# Altium schematic symbol library SymbolsHW003.SchLib: 35 symbols
Pins are listed as number, name and electrical type; pins without a type are passive.

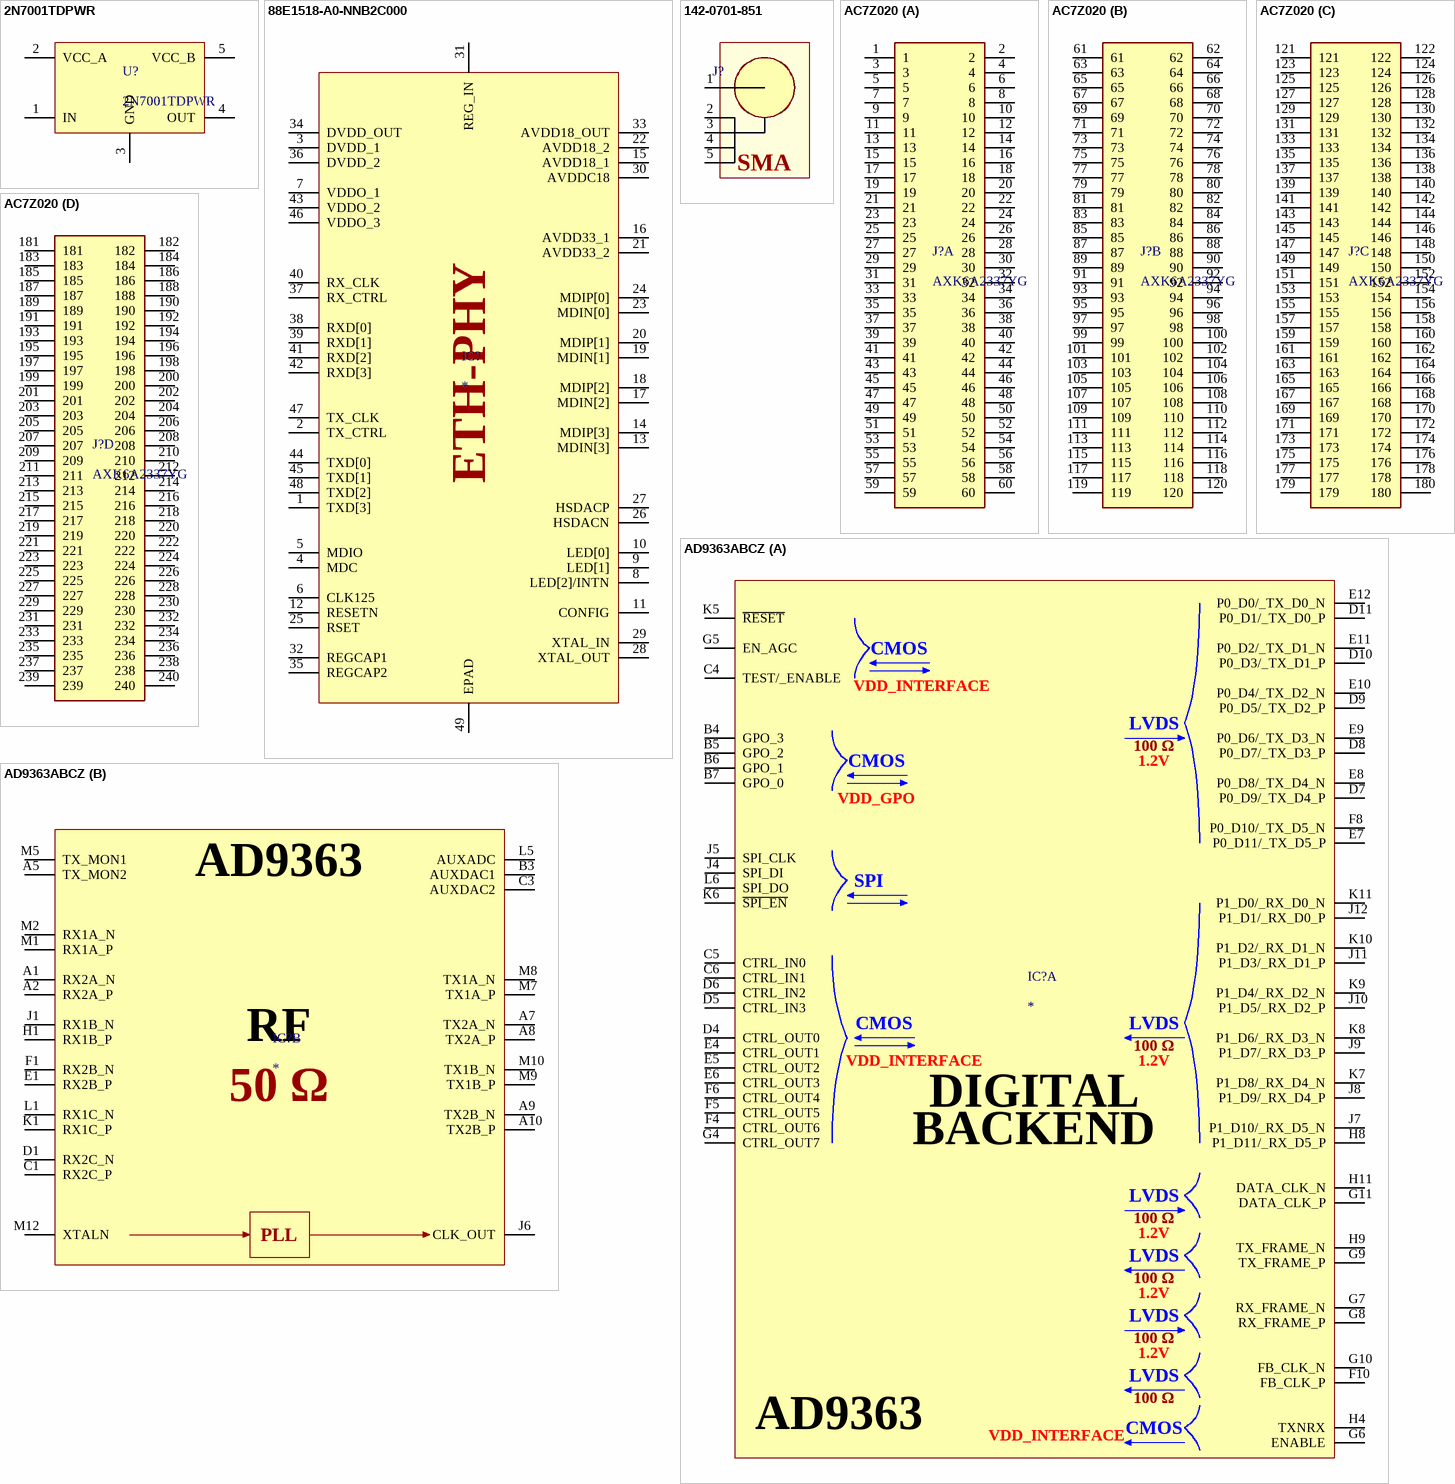
[diagram p0: symbols 2N7001TDPWR to AD9363ABCZ]

## 2N7001TDPWR
designator U?
1-Pin Level translator 1.8V-3.3V; ComponentLink1Description: Datasheet; ComponentLink1URL: https://www.ti.com/lit/ds/symlink/2n7001t.pdf?ts=1727623294637&ref_url=https%253A%252F%252Fwww.mouser.com%252F; ComponentLink2Description: Mouser; ComponentLink2URL: https://www.mouser.com/ProductDetail/Texas-Instruments/2N7001TDPWR?qs=gTYE2QTfZfQ3TTeNKMsV%2Fw%3D%3D
footprint TLV7011DPWR
pins: 1 IN, 2 VCC_A, 3 GND, 4 OUT, 5 VCC_B

## 88E1518-A0-NNB2C000
designator IC?
Ethernet PHY; Manufacturer_Name: Marvell; Manufacturer_Part_Number: 88E1518-A0-NNB2C000; Datasheet Link: https://www.marvell.com/documents/eoxwrbluvwybgxvagkkf/; Height: 1mm; Mouser Part Number: 348-88E1518A0NNB2C00; Mouser Price/Stock: https://www.mouser.co.uk/ProductDetail/Marvell/88E1518-A0-NNB2C000?qs=vdi0iO8H4N0rvEP0LNYMNQ%3D%3D; ComponentLink1Description: Datasheet; ComponentLink1URL: https://www.marvell.com/content/dam/marvell/en/public-collateral/phys-transceivers/marvell-phys-transceivers-alaska-88e151x-datasheet.pdf; ComponentLink2Description: Mouser; ComponentLink2URL: https://www.mouser.com/ProductDetail/Marvell/88E1518-A0-NNB2C000?qs=vdi0iO8H4N0rvEP0LNYMNQ%3D%3D&srsltid=AfmBOoqTLcXCK7KqjB--Ivno5nW_L9Xe-jGn5dG3R4JMU62fw1PFBWuH
footprint QFN50P700X700X100-49N
pins: 1 TXD[3], 2 TX_CTRL, 3 DVDD_1, 4 MDC, 5 MDIO, 6 CLK125, 7 VDDO_1, 8 LED[2]/INTN, 9 LED[1], 10 LED[0], 11 CONFIG, 12 RESETN, 13 MDIN[3], 14 MDIP[3], 15 AVDD18_1, 16 AVDD33_1, 17 MDIN[2], 18 MDIP[2], 19 MDIN[1], 20 MDIP[1], 21 AVDD33_2, 22 AVDD18_2, 23 MDIN[0], 24 MDIP[0], 25 RSET, 26 HSDACN, 27 HSDACP, 28 XTAL_OUT, 29 XTAL_IN, 30 AVDDC18, 31 REG_IN, 32 REGCAP1, 33 AVDD18_OUT, 34 DVDD_OUT, 35 REGCAP2, 36 DVDD_2, 37 RX_CTRL, 38 RXD[0], 39 RXD[1], 40 RX_CLK, 41 RXD[2], 42 RXD[3], 43 VDDO_2, 44 TXD[0], 45 TXD[1], 46 VDDO_3, 47 TX_CLK, 48 TXD[2], 49 EPAD
text: ETH-PHY

## 142-0701-851
designator J?
SMA - Edge Launch - Jack (Socket); MPN: 142-0701-851; ComponentLink1Description: Mouser; ComponentLink1URL: https://ar.mouser.com/ProductDetail/Johnson-Cinch-Connectivity-Solutions/142-0701-851?qs=iKljIZI%252Bxs62lAzRMYOufA%3D%3D; ComponentLink2Description: Datasheet; ComponentLink2URL: https://ar.mouser.com/datasheet/2/643/pi-CCS-JOHN-142-0701-851-1290383.pdf
footprint 142-0701-851 (SMA - Edge Launch - Jack (Socket))
pins: 1, 2, 3, 4, 5
text: SMA

## AC7Z020
designator J?, comment AXK6A2337YG
ZYNQ-7000, SOM, FPGA; ComponentLink1Description: Datasheet; ComponentLink1URL: https://www.alinx.com/public/upload/file/AC7Z020_User_Manual.pdf; ComponentLink2Description: Mouser; ComponentLink2URL: https://www.mouser.com/ProductDetail/Panasonic-Industrial-Devices/AXK6A2337YG?qs=2rFUEsTwVNyAZX1FnCtlOA%3D%3D
footprint AC7Z020
part A pins: 1, 2, 3, 4, 5, 6, 7, 8, 9, 10, 11, 12, 13, 14, 15, 16, 17, 18, 19, 20, 21, 22, 23, 24, 25, 26, 27, 28, 29, 30, 31, 32, 33, 34, 35, 36, 37, 38, 39, 40, 41, 42, 43, 44, 45, 46, 47, 48, 49, 50, 51, 52, 53, 54, 55, 56, 57, 58, 59, 60
part B pins: 61, 62, 63, 64, 65, 66, 67, 68, 69, 70, 71, 72, 73, 74, 75, 76, 77, 78, 79, 80, 81, 82, 83, 84, 85, 86, 87, 88, 89, 90, 91, 92, 93, 94, 95, 96, 97, 98, 99, 100, 101, 102, 103, 104, 105, 106, 107, 108, 109, 110, 111, 112, 113, 114, 115, 116, 117, 118, 119, 120
part C pins: 121, 122, 123, 124, 125, 126, 127, 128, 129, 130, 131, 132, 133, 134, 135, 136, 137, 138, 139, 140, 141, 142, 143, 144, 145, 146, 147, 148, 149, 150, 151, 152, 153, 154, 155, 156, 157, 158, 159, 160, 161, 162, 163, 164, 165, 166, 167, 168, 169, 170, 171, 172, 173, 174, 175, 176, 177, 178, 179, 180
part D pins: 181, 182, 183, 184, 185, 186, 187, 188, 189, 190, 191, 192, 193, 194, 195, 196, 197, 198, 199, 200, 201, 202, 203, 204, 205, 206, 207, 208, 209, 210, 211, 212, 213, 214, 215, 216, 217, 218, 219, 220, 221, 222, 223, 224, 225, 226, 227, 228, 229, 230, 231, 232, 233, 234, 235, 236, 237, 238, 239, 240

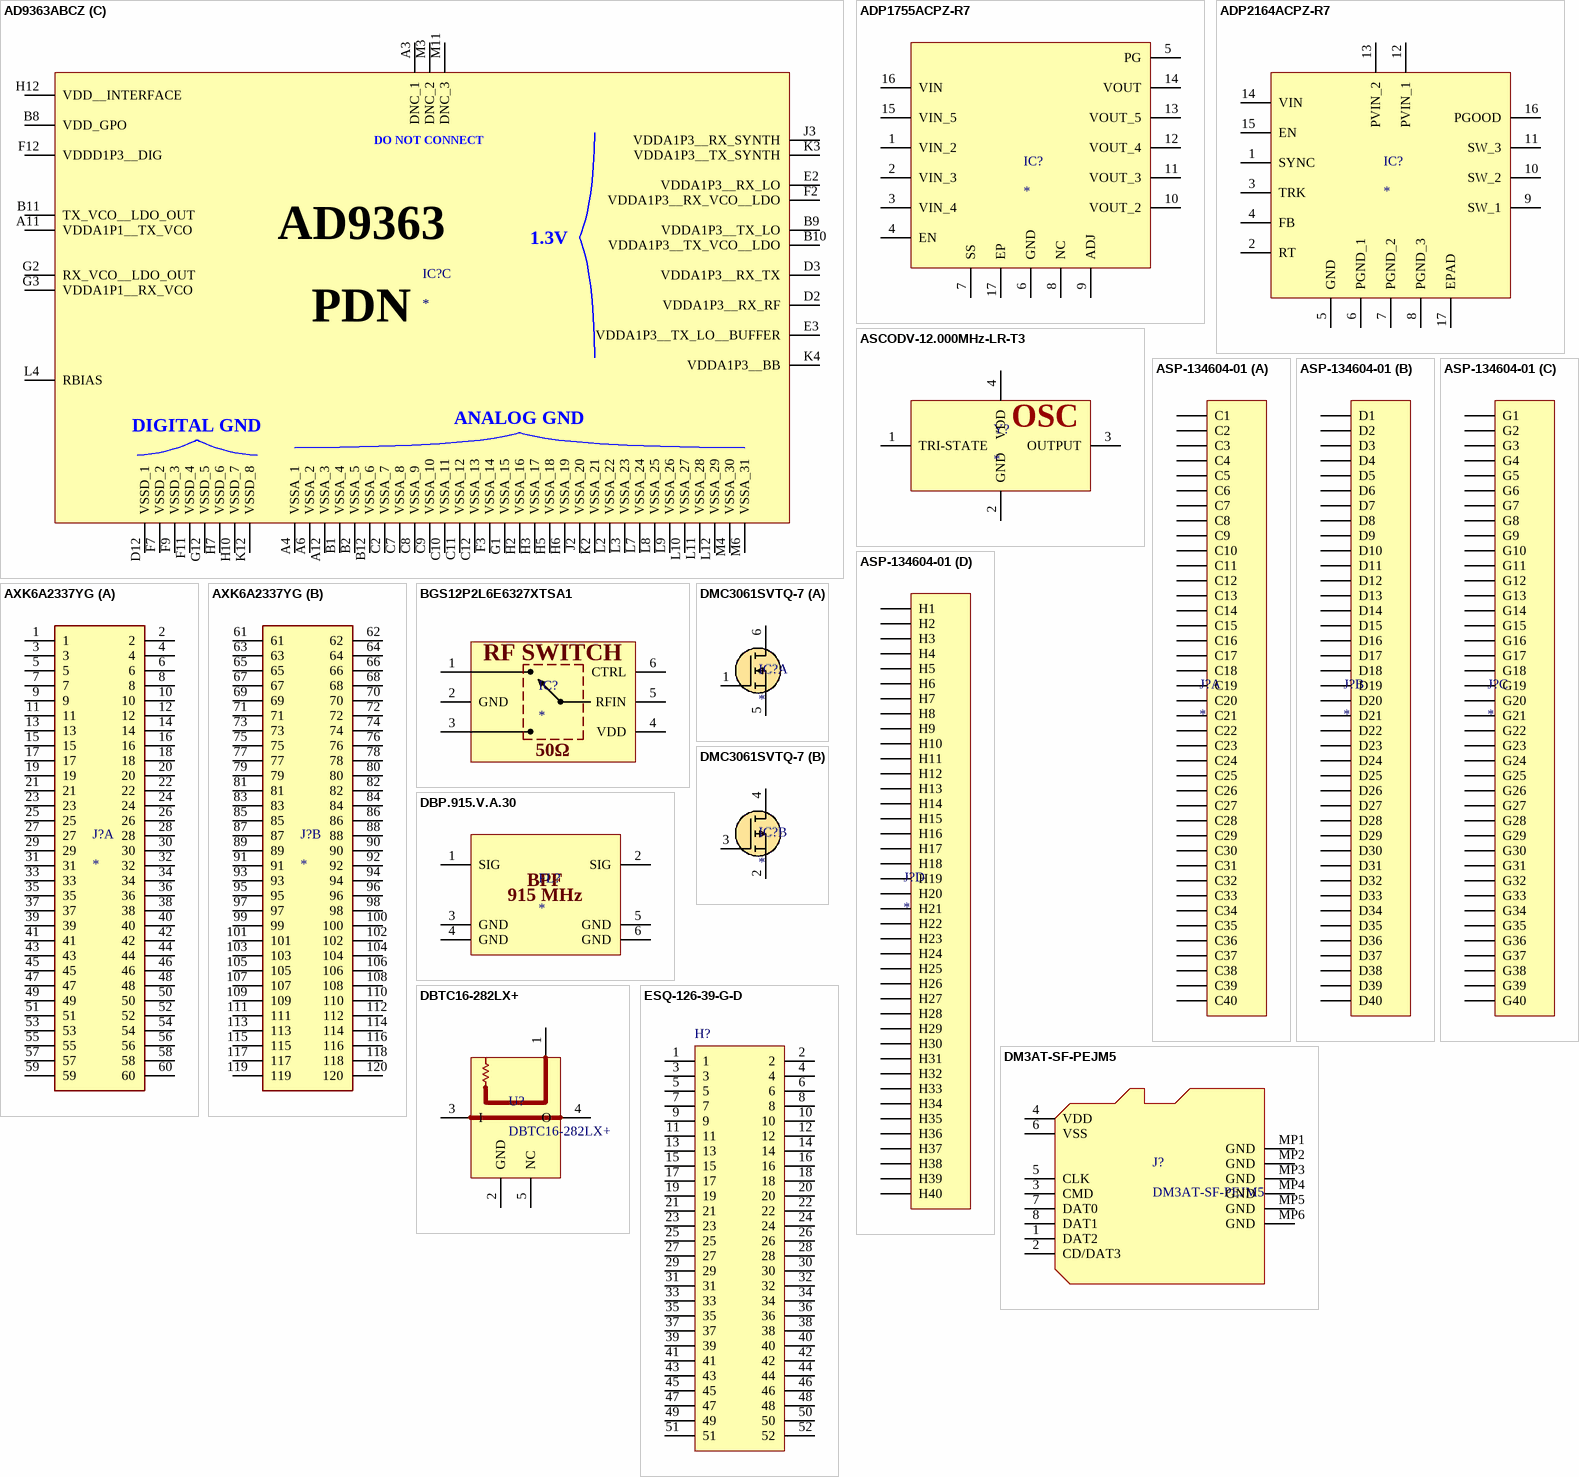
[diagram p1: symbols AD9363ABCZ to ESQ-126-39-G-D]

## AD9363ABCZ
designator IC?
RF Transceiver; Manufacturer_Name: Analog Devices; Manufacturer_Part_Number: AD9363ABCZ; Datasheet Link: https://mouser.componentsearchengine.com/Datasheets/1/AD9363ABCZ.pdf; Height: 1.7mm; Mouser Part Number: 584-AD9363ABCZ; Mouser Price/Stock: https://www.mouser.co.uk/ProductDetail/Analog-Devices/AD9363ABCZ?qs=Au78WOuo%252BOe4GiwckNxtyg%3D%3D; Arrow Part Number: AD9363ABCZ; Arrow Price/Stock: https://www.arrow.com/en/products/ad9363abcz/analog-devices; ComponentLink1Description: Mouser; ComponentLink1URL: https://ar.mouser.com/ProductDetail/Analog-Devices/AD9363ABCZ?qs=Au78WOuo%252BOe4GiwckNxtyg%3D%3D; ComponentLink2Description: Datasheet; ComponentLink2URL: https://www.mouser.com/datasheet/2/609/AD9363-3120047.pdf
footprint BGA144C80P12X12_1000X1000X170
part A pins: B4 GPO_3, B5 GPO_2, B6 GPO_1, B7 GPO_0, C4 TEST/_ENABLE, C5 CTRL_IN0, C6 CTRL_IN1, D4 CTRL_OUT0, D5 CTRL_IN3, D6 CTRL_IN2, D7 P0_D9/_TX_D4_P, D8 P0_D7/_TX_D3_P, D9 P0_D5/_TX_D2_P, D10 P0_D3/_TX_D1_P, D11 P0_D1/_TX_D0_P, E4 CTRL_OUT1, E5 CTRL_OUT2, E6 CTRL_OUT3, E7 P0_D11/_TX_D5_P, E8 P0_D8/_TX_D4_N, E9 P0_D6/_TX_D3_N, E10 P0_D4/_TX_D2_N, E11 P0_D2/_TX_D1_N, E12 P0_D0/_TX_D0_N, F4 CTRL_OUT6, F5 CTRL_OUT5, F6 CTRL_OUT4, F8 P0_D10/_TX_D5_N, F10 FB_CLK_P, G4 CTRL_OUT7, G5 EN_AGC, G6 ENABLE, G7 RX_FRAME_N, G8 RX_FRAME_P, G9 TX_FRAME_P, G10 FB_CLK_N, G11 DATA_CLK_P, H4 TXNRX, H8 P1_D11/_RX_D5_P, H9 TX_FRAME_N, H11 DATA_CLK_N, J4 SPI_DI, J5 SPI_CLK, J7 P1_D10/_RX_D5_N, J8 P1_D9/_RX_D4_P, J9 P1_D7/_RX_D3_P, J10 P1_D5/_RX_D2_P, J11 P1_D3/_RX_D1_P, J12 P1_D1/_RX_D0_P, K5 ~{RESET}, K6 ~{SPI_EN}, K7 P1_D8/_RX_D4_N, K8 P1_D6/_RX_D3_N, K9 P1_D4/_RX_D2_N, K10 P1_D2/_RX_D1_N, K11 P1_D0/_RX_D0_N, L6 SPI_DO
part B pins: A1 RX2A_N, A2 RX2A_P, A5 TX_MON2, A7 TX2A_N, A8 TX2A_P, A9 TX2B_N, A10 TX2B_P, B3 AUXDAC1, C1 RX2C_P, C3 AUXDAC2, D1 RX2C_N, E1 RX2B_P, F1 RX2B_N, H1 RX1B_P, J1 RX1B_N, J6 CLK_OUT, K1 RX1C_P, L1 RX1C_N, L5 AUXADC, M1 RX1A_P, M2 RX1A_N, M5 TX_MON1, M7 TX1A_P, M8 TX1A_N, M9 TX1B_P, M10 TX1B_N, M12 XTALN
part C pins: A3 DNC_1, A4 VSSA_1, A6 VSSA_2, A11 VDDA1P1__TX_VCO, A12 VSSA_3, B1 VSSA_4, B2 VSSA_5, B8 VDD_GPO, B9 VDDA1P3__TX_LO, B10 VDDA1P3__TX_VCO__LDO, B11 TX_VCO__LDO_OUT, B12 VSSA_6, C2 VSSA_7, C7 VSSA_8, C8 VSSA_9, C9 VSSA_10, C10 VSSA_11, C11 VSSA_12, C12 VSSA_13, D2 VDDA1P3__RX_RF, D3 VDDA1P3__RX_TX, D12 VSSD_1, E2 VDDA1P3__RX_LO, E3 VDDA1P3__TX_LO__BUFFER, F2 VDDA1P3__RX_VCO__LDO, F3 VSSA_14, F7 VSSD_2, F9 VSSD_3, F11 VSSD_4, F12 VDDD1P3__DIG, G1 VSSA_15, G2 RX_VCO__LDO_OUT, G3 VDDA1P1__RX_VCO, G12 VSSD_5, H2 VSSA_16, H3 VSSA_17, H5 VSSA_18, H6 VSSA_19, H7 VSSD_6, H10 VSSD_7, H12 VDD__INTERFACE, J2 VSSA_20, J3 VDDA1P3__RX_SYNTH, K2 VSSA_21, K3 VDDA1P3__TX_SYNTH, K4 VDDA1P3__BB, K12 VSSD_8, L2 VSSA_22, L3 VSSA_23, L4 RBIAS, L7 VSSA_24, L8 VSSA_25, L9 VSSA_26, L10 VSSA_27, L11 VSSA_28, L12 VSSA_29, M3 DNC_2, M4 VSSA_30, M6 VSSA_31, M11 DNC_3
part A text: CMOS; VDD_INTERFACE; LVDS; 100 Ω; 1.2V; SPI; DIGITAL; BACKEND; AD9363
part B text: AD9363; RF; 50 Ω; PLL
part C text: DO NOT CONNECT; AD9363; 1.3V; PDN; ANALOG GND; DIGITAL GND

## ADP1755ACPZ-R7
designator IC?
Linear Voltage Regulators 1.2A LDO Adjustable Vout; Manufacturer_Name: Analog Devices; Manufacturer_Part_Number: ADP1755ACPZ-R7; Mouser Part Number: 584-ADP1755ACPZ-R7; Mouser Price/Stock: https://www.mouser.co.uk/ProductDetail/Analog-Devices/ADP1755ACPZ-R7?qs=WIvQP4zGanjr6I6ye1%252BLcA%3D%3D; Arrow Part Number: ADP1755ACPZ-R7; Arrow Price/Stock: https://www.arrow.com/en/products/adp1755acpz-r7/analog-devices?region=nac; ComponentLink1Description: Mouser; ComponentLink1URL: https://ar.mouser.com/ProductDetail/Analog-Devices/ADP1755ACPZ-R7?qs=WIvQP4zGanjr6I6ye1%252BLcA%3D%3D; ComponentLink2Description: Datasheet; ComponentLink2URL: https://ar.mouser.com/datasheet/2/609/ADP1754_1755-3120973.pdf
footprint QFN65P400X400X100-17N
pins: 1 VIN_2, 2 VIN_3, 3 VIN_4, 4 EN, 5 PG, 6 GND, 7 SS, 8 NC, 9 ADJ, 10 VOUT_2, 11 VOUT_3, 12 VOUT_4, 13 VOUT_5, 14 VOUT, 15 VIN_5, 16 VIN, 17 EP

## ADP2164ACPZ-R7
designator IC?
Switching Voltage Regulators 6V/4A, Sync, Step Down, DC-DC Switch Reg; Manufacturer_Name: Analog Devices; Manufacturer_Part_Number: ADP2164ACPZ-R7; Datasheet Link: https://www.analog.com/media/en/technical-documentation/data-sheets/ADP2164.PDF; Height: 0.8mm; Mouser Part Number: 584-ADP2164ACPZ-R7; Mouser Price/Stock: https://www.mouser.co.uk/ProductDetail/Analog-Devices/ADP2164ACPZ-R7?qs=WIvQP4zGaniX%2FmXt5GNDSQ%3D%3D; Arrow Part Number: ADP2164ACPZ-R7; Arrow Price/Stock: https://www.arrow.com/en/products/adp2164acpz-r7/analog-devices?region=nac; ComponentLink1Description: Mouser; ComponentLink1URL: https://ar.mouser.com/ProductDetail/Analog-Devices/ADP1755ACPZ-R7?qs=WIvQP4zGanjr6I6ye1%252BLcA%3D%3D; ComponentLink2Description: Datasheet; ComponentLink2URL: https://ar.mouser.com/datasheet/2/609/ADI-3121754.pdf
footprint QFN65P400X400X80-17N-D
pins: 1 SYNC, 2 RT, 3 TRK, 4 FB, 5 GND, 6 PGND_1, 7 PGND_2, 8 PGND_3, 9 SW_1, 10 SW_2, 11 SW_3, 12 PVIN_1, 13 PVIN_2, 14 VIN, 15 EN, 16 PGOOD, 17 EPAD

## ASCODV-12.000MHz-LR-T3
designator Y?
Oscillator 12MHz; Manufacturer_Name: ABRACON; Manufacturer_Part_Number: ASCODV-12.000MHz-LR-T3; Datasheet Link: https://abracon.com/datasheets/ASCODV.pdf; Height: 0.8mm; Mouser Part Number: 815-ASCODV-12.00LRT3; Mouser Price/Stock: https://www.mouser.co.uk/ProductDetail/ABRACON/ASCODV-12.000MHz-LR-T3?qs=ulEaXIWI0c9GTuOdDCHv0g%3D%3D; ComponentLink1Description: Datasheet; ComponentLink1URL: https://www.mouser.com/datasheet/2/3/ASCODV-3195976.pdf; ComponentLink2Description: Mouser; ComponentLink2URL: https://www.mouser.com/ProductDetail/ABRACON/ASCODV-12.000MHz-LR-T3?qs=ulEaXIWI0c9GTuOdDCHv0g%3D%3D
footprint ASCODV12000MHzLRT3
pins: 1 TRI-STATE, 2 GND, 3 OUTPUT, 4 VDD
text: OSC

## ASP-134604-01
designator J?
FMC Connector; Manufacturer_Name: SAMTEC; Manufacturer_Part_Number: ASP-134604-01; Datasheet Link: https://componentsearchengine.com/Datasheets/2/ASP-134604-01.pdf; Height: 7.11mm; Mouser Part Number: 200-ASP-134604-01; Mouser Price/Stock: https://www.mouser.co.uk/ProductDetail/Samtec/ASP-134604-01?qs=Rp%2FUEJiACm00i8g2mQ6XNw%3D%3D; Arrow Part Number: ASP-134604-01; Arrow Price/Stock: https://www.arrow.com/en/products/asp-134604-01/samtec?region=nac
footprint ASP13460401
part A pins: C1, C2, C3, C4, C5, C6, C7, C8, C9, C10, C11, C12, C13, C14, C15, C16, C17, C18, C19, C20, C21, C22, C23, C24, C25, C26, C27, C28, C29, C30, C31, C32, C33, C34, C35, C36, C37, C38, C39, C40
part B pins: D1, D2, D3, D4, D5, D6, D7, D8, D9, D10, D11, D12, D13, D14, D15, D16, D17, D18, D19, D20, D21, D22, D23, D24, D25, D26, D27, D28, D29, D30, D31, D32, D33, D34, D35, D36, D37, D38, D39, D40
part C pins: G1, G2, G3, G4, G5, G6, G7, G8, G9, G10, G11, G12, G13, G14, G15, G16, G17, G18, G19, G20, G21, G22, G23, G24, G25, G26, G27, G28, G29, G30, G31, G32, G33, G34, G35, G36, G37, G38, G39, G40
part D pins: H1, H2, H3, H4, H5, H6, H7, H8, H9, H10, H11, H12, H13, H14, H15, H16, H17, H18, H19, H20, H21, H22, H23, H24, H25, H26, H27, H28, H29, H30, H31, H32, H33, H34, H35, H36, H37, H38, H39, H40

## AXK6A2337YG
designator J?
120 Position Connector Header, Outer Shroud Contacts Surface Mount Gold; MF: Panasonic; MP: AXK6A2337YG; Package: None; Price: None; SnapEDA_Link: https://www.snapeda.com/parts/AXK6A2337YG/Panasonic/view-part/?ref=snap; Value: *; Check_prices: https://www.snapeda.com/parts/AXK6A2337YG/Panasonic/view-part/?ref=eda; Purchase-URL: https://pricing.snapeda.com/search/part/AXK6A2337YG/?ref=eda; Availability: In Stock; ComponentLink1Description: Datasheet; ComponentLink1URL: https://www.mouser.com/datasheet/2/315/AXK-1196653.pdf; ComponentLink2Description: Mouser; ComponentLink2URL: https://www.mouser.com/ProductDetail/Panasonic-Industrial-Devices/AXK6A2337YG?qs=2rFUEsTwVNyAZX1FnCtlOA%3D%3D
footprint PANASONIC_AXK6A2337YG
part A pins: 1, 2, 3, 4, 5, 6, 7, 8, 9, 10, 11, 12, 13, 14, 15, 16, 17, 18, 19, 20, 21, 22, 23, 24, 25, 26, 27, 28, 29, 30, 31, 32, 33, 34, 35, 36, 37, 38, 39, 40, 41, 42, 43, 44, 45, 46, 47, 48, 49, 50, 51, 52, 53, 54, 55, 56, 57, 58, 59, 60
part B pins: 61, 62, 63, 64, 65, 66, 67, 68, 69, 70, 71, 72, 73, 74, 75, 76, 77, 78, 79, 80, 81, 82, 83, 84, 85, 86, 87, 88, 89, 90, 91, 92, 93, 94, 95, 96, 97, 98, 99, 100, 101, 102, 103, 104, 105, 106, 107, 108, 109, 110, 111, 112, 113, 114, 115, 116, 117, 118, 119, 120

## BGS12P2L6E6327XTSA1
designator IC?
RF Switch; Manufacturer_Name: Infineon; Manufacturer_Part_Number: BGS12P2L6E6327XTSA1; Datasheet Link: https://www.arrow.com/en/products/bgs12p2l6e6327xtsa1/infineon-technologies-ag; Height: 0.32mm; Mouser Part Number: 726-BGS12P2L6E6327XT; Mouser Price/Stock: https://www.mouser.co.uk/ProductDetail/Infineon-Technologies/BGS12P2L6E6327XTSA1?qs=mAH9sUMRCtuiUSQTWc4Zyg%3D%3D; Arrow Part Number: BGS12P2L6E6327XTSA1; Arrow Price/Stock: https://www.arrow.com/en/products/bgs12p2l6e6327xtsa1/infineon-technologies-ag?region=nac; ComponentLink1Description: Mouser; ComponentLink1URL: https://ar.mouser.com/ProductDetail/Infineon-Technologies/BGS12P2L6E6327XTSA1?qs=mAH9sUMRCtuiUSQTWc4Zyg%3D%3D; ComponentLink2Description: Datasheet; ComponentLink2URL: https://ar.mouser.com/datasheet/2/196/Infineon_BGS12P2L6_DataSheet_v02_00_EN-2885839.pdf
footprint BGS12P2L6E6327XTSA1
pins: 1 RF2, 2 GND, 3 RF1, 4 VDD, 5 RFIN, 6 CTRL
text: RF SWITCH; 50Ω

## DBP.915.V.A.30
designator FL?
RF Filter; Manufacturer_Name: Taoglas; Manufacturer_Part_Number: DBP.915.V.A.30; Datasheet Link: https://cdn.taoglas.com/datasheets/DBP.915.V.A.30.pdf; Height: 3.2mm; Mouser Part Number: 960-DBP.915.V.A.30; Mouser Price/Stock: https://www.mouser.co.uk/ProductDetail/Taoglas/DBP.915.V.A.30?qs=MLItCLRbWsyKal3qF5ESLA%3D%3D; ComponentLink1Description: Mouser; ComponentLink1URL: https://www.mouser.com/ProductDetail/Taoglas/DBP.915.V.A.30?qs=MLItCLRbWsyKal3qF5ESLA%3D%3D; ComponentLink2Description: Datasheet; ComponentLink2URL: https://www.mouser.com/datasheet/2/398/DBP_915_V_A_30-3399130.pdf
footprint DBP915VA30
pins: 1 SIG, 2 SIG, 3 GND, 4 GND, 5 GND, 6 GND
text: BPF; 915 MHz

## DBTC16-282LX+
designator U?
Coupler; Manufacturer_Name: Mini-Circuits; Datasheet Link: https://www.minicircuits.com/pdfs/DBTC16-282LX+.pdf; Height: 3.94mm; Manufacturer_Part_Number: DBTC16-282LX+; ComponentLink1Description: Datasheet; ComponentLink1URL: https://www.minicircuits.com/pdfs/DBTC16-282LX+.pdf; ComponentLink2Description: Mouser; ComponentLink2URL: https://www.mouser.com/ProductDetail/Mini-Circuits/DBTC16-282LX%2b?qs=Imq1NPwxi75dpqidvMNXQw%3D%3D
footprint DBTC16282LX
pins: 1, 2 GND, 3 I, 4 O, 5 NC

## DM3AT-SF-PEJM5
designator J?
microSD Card socket; ComponentLink1Description: Datasheet; ComponentLink1URL: https://www.mouser.com/datasheet/2/185/DM3AT_SF_PEJM5_CL0609_0031_0_00_2DDrawing_00009471-1614303.pdf; ComponentLink2Description: Mouser; ComponentLink2URL: https://www.mouser.com/ProductDetail/Hirose-Connector/DM3AT-SF-PEJM5?qs=LZSZKJVF%252B2WTDKp%252BR7IYAQ%3D%3D
footprint DM3ATSFPEJM5
pins: 1 DAT2, 2 CD/DAT3, 3 CMD, 4 VDD, 5 CLK, 6 VSS, 7 DAT0, 8 DAT1, MP1 GND, MP2 GND, MP3 GND, MP4 GND, MP5 GND, MP6 GND

## DMC3061SVTQ-7
designator IC?
NMOS & PMOS; Manufacturer_Name: Diodes Incorporated; Manufacturer_Part_Number: DMC3061SVTQ-7; Datasheet Link: https://www.diodes.com//assets/Datasheets/DMC3061SVTQ.pdf; Height: 1mm; Mouser Part Number: 621-DMC3061SVTQ-7; Mouser Price/Stock: https://www.mouser.co.uk/ProductDetail/Diodes-Incorporated/DMC3061SVTQ-7?qs=yqaQSyyJnNjqUb%252B7Uvrj7A%3D%3D; Arrow Part Number: DMC3061SVTQ-7; Arrow Price/Stock: https://www.arrow.com/en/products/dmc3061svtq-7/diodes-incorporated?region=europe; ComponentLink1Description: Mouser; ComponentLink1URL: https://ar.mouser.com/ProductDetail/Diodes-Incorporated/DMC3061SVTQ-7?qs=yqaQSyyJnNjqUb%252B7Uvrj7A%3D%3D; ComponentLink2Description: Datasheet; ComponentLink2URL: https://www.mouser.com/datasheet/2/115/DIOD_S_A0011114860_1-2543526.pdf
footprint SOT95P280X100-6N
part A pins: 1 G, 5 S, 6 D
part B pins: 2 S, 3 G, 4 D

## ESQ-126-39-G-D
designator H?, comment 2x26 pin header THT  (value not drawn)
Conn Elevated Socket SKT 52 POS 2.54mm Solder ST Thru-Hole Tube; MP: ESQ-126-39-G-D; MF: Samtec; Package: None; Digi-Key_Purchase_URL: https://www.digikey.com.ar/product-detail/en/samtec-inc/ESQ-126-39-G-D/SAM10462-ND/3601055?utm_source=snapeda&utm_medium=aggregator&utm_campaign=symbol; SnapEDA_Link: https://www.snapeda.com/parts/ESQ-126-39-G-D/Samtec%20Inc./view-part/?ref=snap; Digi-Key_Part_Number: SAM10462-ND; Value: *
footprint ESQ-126-39-G-D
pins: 1, 2, 3, 4, 5, 6, 7, 8, 9, 10, 11, 12, 13, 14, 15, 16, 17, 18, 19, 20, 21, 22, 23, 24, 25, 26, 27, 28, 29, 30, 31, 32, 33, 34, 35, 36, 37, 38, 39, 40, 41, 42, 43, 44, 45, 46, 47, 48, 49, 50, 51, 52

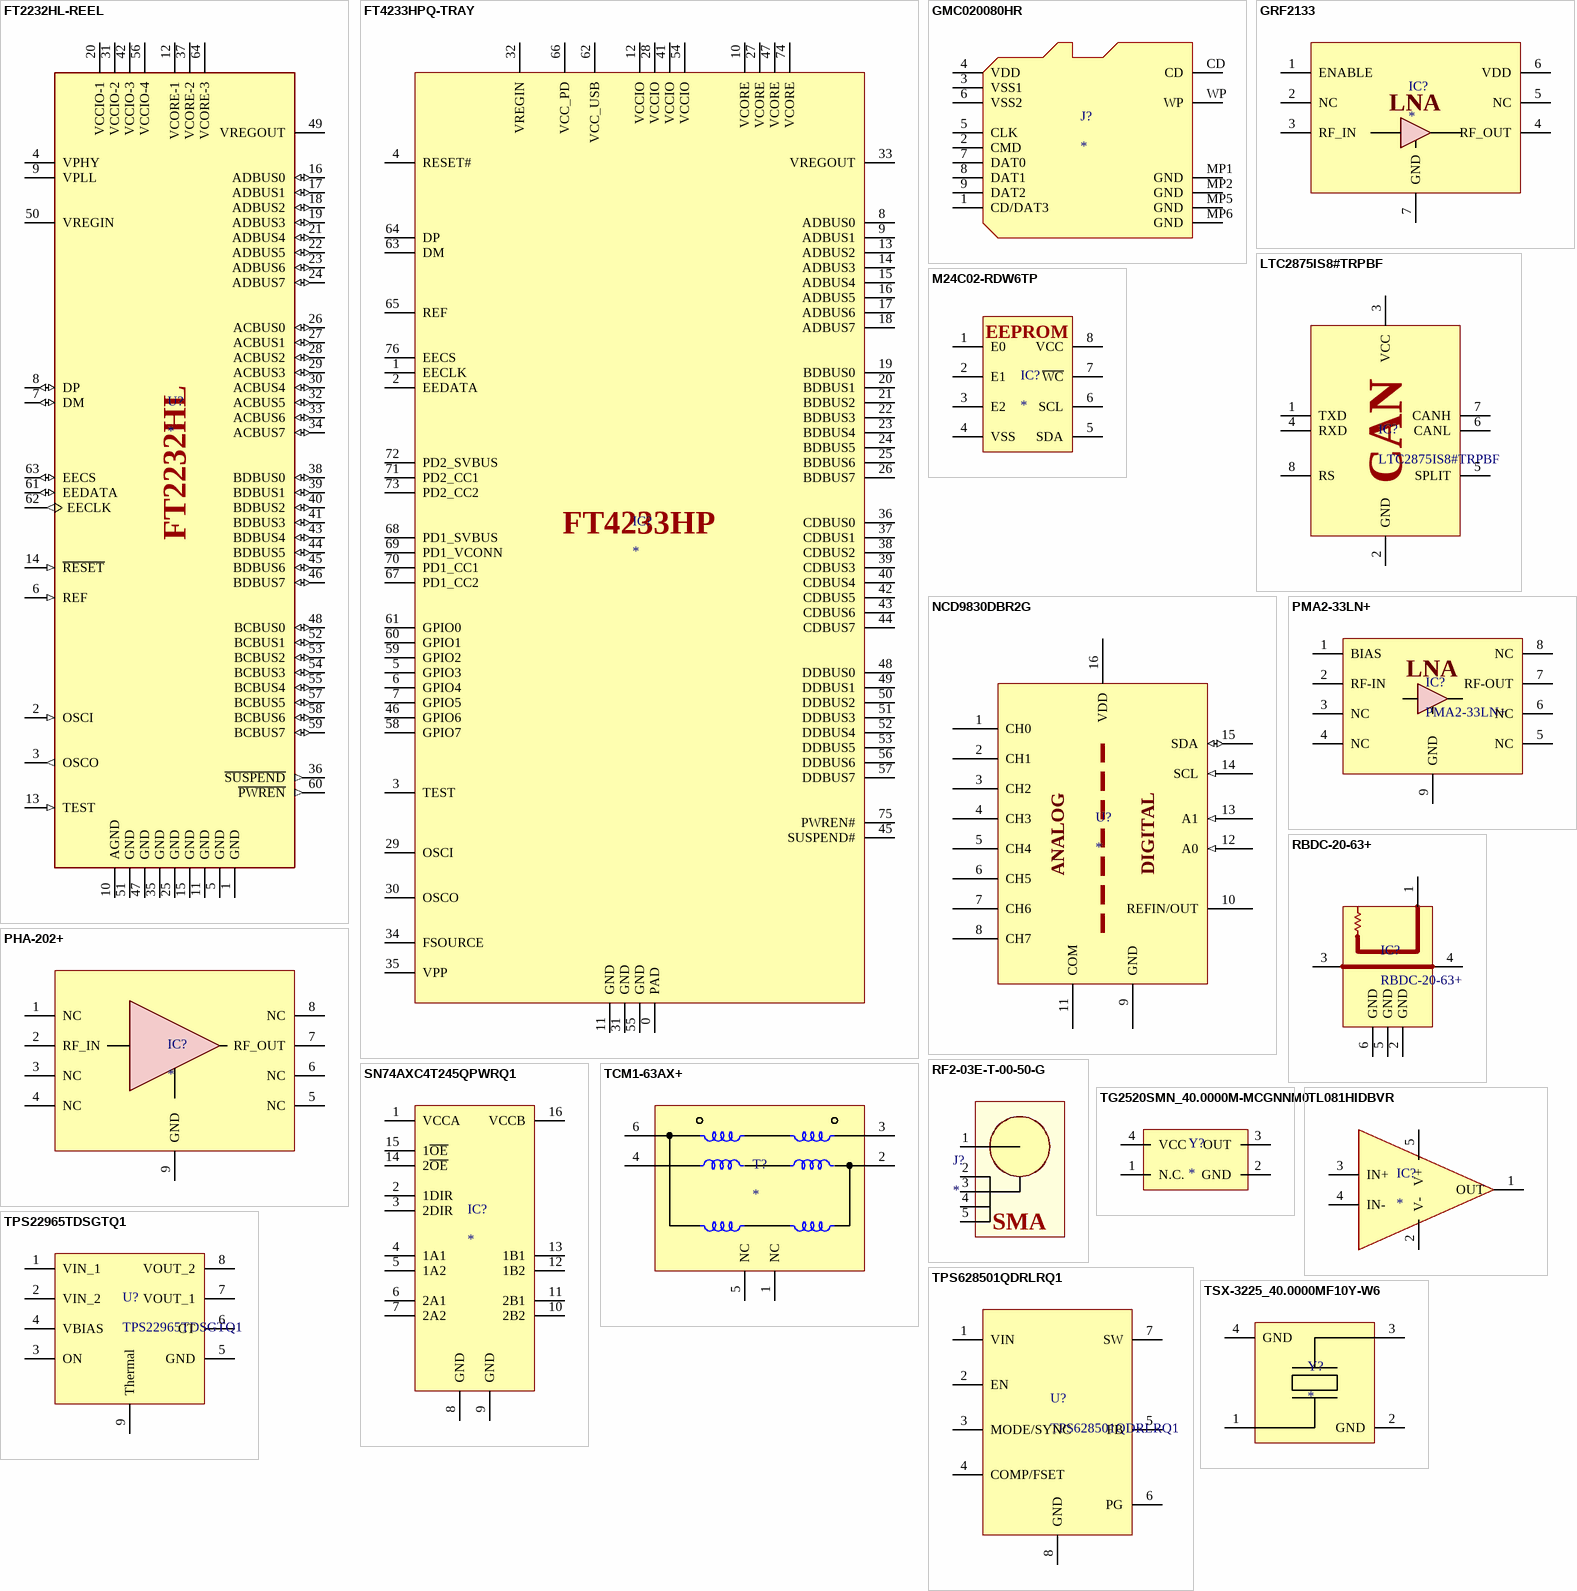
[diagram p2: symbols FT2232HL-REEL to TSX-3225_40.0000MF10Y-W6]

## FT2232HL-REEL
designator U?
FTDI USB Hi-Speed to Dual Channel Serial UART/FIFO/JTAG/SPI/I2C IC - LQFP-64; MF: {'manufacturer': u'FTDI, Future Technology Devices International Ltd'}; MP: FT2232HL-REEL; Package: None; Price: None; Value: *; Availability: Unavailable
footprint QFP50P1200X1200X160-64N
pins: 1 GND (power), 2 OSCI (in), 3 OSCO (out), 4 VPHY (power), 5 GND (power), 6 REF (in), 7 DM (io), 8 DP (io), 9 VPLL (power), 10 AGND (power), 11 GND (power), 12 VCORE-1 (power), 13 TEST (in), 14 ~{RESET} (in), 15 GND (power), 16 ADBUS0 (io), 17 ADBUS1 (io), 18 ADBUS2 (io), 19 ADBUS3 (io), 20 VCCIO-1 (power), 21 ADBUS4 (io), 22 ADBUS5 (io), 23 ADBUS6 (io), 24 ADBUS7 (io), 25 GND (power), 26 ACBUS0 (io), 27 ACBUS1 (io), 28 ACBUS2 (io), 29 ACBUS3 (io), 30 ACBUS4 (io), 31 VCCIO-2 (power), 32 ACBUS5 (io), 33 ACBUS6 (io), 34 ACBUS7 (io), 35 GND (power), 36 ~{SUSPEND} (out), 37 VCORE-2 (power), 38 BDBUS0 (io), 39 BDBUS1 (io), 40 BDBUS2 (io), 41 BDBUS3 (io), 42 VCCIO-3 (power), 43 BDBUS4 (io), 44 BDBUS5 (io), 45 BDBUS6 (io), 46 BDBUS7 (io), 47 GND (power), 48 BCBUS0 (io), 49 VREGOUT (power), 50 VREGIN (power), 51 GND (power), 52 BCBUS1 (io), 53 BCBUS2 (io), 54 BCBUS3 (io), 55 BCBUS4 (io), 56 VCCIO-4 (power), 57 BCBUS5 (io), 58 BCBUS6 (io), 59 BCBUS7 (io), 60 ~{PWREN} (out), 61 EEDATA (io), 62 EECLK (out), 63 EECS (io), 64 VCORE-3 (power)
text: FT2232HL

## FT4233HPQ-TRAY
designator IC?
FTDI USB-UART/JTAG; Manufacturer_Name: FTDI Chip; Manufacturer_Part_Number: FT4233HPQ-TRAY; Datasheet Link: https://www.mouser.com/datasheet/2/163/FTDI_03252021_DS_FT423XHP-2238443.pdf; Height: 1mm; Mouser Part Number: 895-FT4233HPQ-TRAY; Mouser Price/Stock: https://www.mouser.co.uk/ProductDetail/FTDI/FT4233HPQ-TRAY?qs=DRkmTr78QASF%2FnlaHZtpVA%3D%3D; Arrow Part Number: FT4233HPQ-TRAY; Arrow Price/Stock: https://www.arrow.com/en/products/ft4233hpq-tray/ftdi-chip?region=nac
footprint QFN40P900X900X100-77N-D
pins: 0 PAD, 1 EECLK, 2 EEDATA, 3 TEST, 4 RESET#, 5 GPIO3, 6 GPIO4, 7 GPIO5, 8 ADBUS0, 9 ADBUS1, 10 VCORE, 11 GND, 12 VCCIO, 13 ADBUS2, 14 ADBUS3, 15 ADBUS4, 16 ADBUS5, 17 ADBUS6, 18 ADBUS7, 19 BDBUS0, 20 BDBUS1, 21 BDBUS2, 22 BDBUS3, 23 BDBUS4, 24 BDBUS5, 25 BDBUS6, 26 BDBUS7, 27 VCORE, 28 VCCIO, 29 OSCI, 30 OSCO, 31 GND, 32 VREGIN, 33 VREGOUT, 34 FSOURCE, 35 VPP, 36 CDBUS0, 37 CDBUS1, 38 CDBUS2, 39 CDBUS3, 40 CDBUS4, 41 VCCIO, 42 CDBUS5, 43 CDBUS6, 44 CDBUS7, 45 SUSPEND#, 46 GPIO6, 47 VCORE, 48 DDBUS0, 49 DDBUS1, 50 DDBUS2, 51 DDBUS3, 52 DDBUS4, 53 DDBUS5, 54 VCCIO, 55 GND, 56 DDBUS6, 57 DDBUS7, 58 GPIO7, 59 GPIO2, 60 GPIO1, 61 GPIO0, 62 VCC_USB, 63 DM, 64 DP, 65 REF, 66 VCC_PD, 67 PD1_CC2, 68 PD1_SVBUS, 69 PD1_VCONN, 70 PD1_CC1, 71 PD2_CC1, 72 PD2_SVBUS, 73 PD2_CC2, 74 VCORE, 75 PWREN#, 76 EECS
text: FT4233HP

## GMC020080HR
designator J?
SD Card socket; Manufacturer_Name: Amphenol; Manufacturer_Part_Number: GMC020080HR; Datasheet Link: https://componentsearchengine.com/Datasheets/1/GMC020080HR.pdf; Height: 2.87mm; Mouser Part Number: 523-GMC020080HR; Mouser Price/Stock: https://www.mouser.co.uk/ProductDetail/Amphenol-Commercial-Products/GMC020080HR?qs=W0yvOO0ixfGUck2%252BUqFamw%3D%3D; Arrow Part Number: GMC020080HR; Arrow Price/Stock: https://www.arrow.com/en/products/gmc020080hr/amphenol-fci?region=nac; ComponentLink1Description: Datasheet; ComponentLink1URL: https://www.amphenol-icc.com/media/wysiwyg/files/documentation/datasheet/inputoutput/io_micro_sdcard.pdf; ComponentLink2Description: Mouser; ComponentLink2URL: https://www.mouser.com/ProductDetail/Amphenol-Commercial-Products/GMC020080HR?qs=W0yvOO0ixfGUck2%252BUqFamw%3D%3D
footprint GMC020080HR
pins: 1 CD/DAT3, 2 CMD, 3 VSS1, 4 VDD, 5 CLK, 6 VSS2, 7 DAT0, 8 DAT1, 9 DAT2, CD, MP1 GND, MP2 GND, MP5 GND, MP6 GND, WP

## GRF2133
designator IC?
LNA; Manufacturer_Name: Guerrilla RF; Manufacturer_Part_Number: GRF2133; Datasheet Link: https://componentsearchengine.com/Datasheets/1/GRF2133.pdf; Height: 0.5mm; Mouser Part Number: 459-GRF2133; Mouser Price/Stock: https://www.mouser.co.uk/ProductDetail/Guerrilla-RF/GRF2133?qs=YCa%2FAAYMW0058PO0kVhesQ%3D%3D; ComponentLink1Description: Mouser; ComponentLink1URL: https://ar.mouser.com/ProductDetail/Guerrilla-RF/GRF2133?qs=YCa%2FAAYMW0058PO0kVhesQ%3D%3D; ComponentLink2Description: Datasheet; ComponentLink2URL: https://ar.mouser.com/datasheet/2/777/GRF2133DS-1714350.pdf
footprint SON50P150X150X50-7N
pins: 1 ENABLE, 2 NC, 3 RF_IN, 4 RF_OUT, 5 NC, 6 VDD, 7 GND

## LTC2875IS8#TRPBF
designator IC?
CAN-PHY; Manufacturer_Name: Analog Devices; Datasheet Link: http://www.linear.com/docs/46014; Height: 1.752mm; Manufacturer_Part_Number: LTC2875IS8#TRPBF; Mouser Part Number: 584-LTC2875IS8#TRPBF; Mouser Price/Stock: https://www.mouser.co.uk/ProductDetail/Analog-Devices/LTC2875IS8TRPBF?qs=hVkxg5c3xu8H99OfALHpDQ%3D%3D; Arrow Part Number: LTC2875IS8#TRPBF; Arrow Price/Stock: https://www.arrow.com/en/products/ltc2875is8trpbf/analog-devices; ComponentLink1Description: Datasheet; ComponentLink1URL: https://www.mouser.com/datasheet/2/609/LTC2875-1601900.pdf; ComponentLink2Description: Mouser; ComponentLink2URL: https://www.mouser.com/ProductDetail/Analog-Devices/LTC2875IS8TRPBF?qs=sGAEpiMZZMuyKkoWRCJ2WGqZ3ZQQeOyRcU5rSmEU3MM%2F8LaNfgp22A%3D%3D
footprint SOIC127P599X175-8N
pins: 1 TXD, 2 GND, 3 VCC, 4 RXD, 5 SPLIT, 6 CANL, 7 CANH, 8 RS
text: CAN

## M24C02-RDW6TP
designator IC?
EEPROM; Manufacturer_Name: STMicroelectronics; Manufacturer_Part_Number: M24C02-RDW6TP; Datasheet Link: http://www.st.com/st-web-ui/static/active/en/resource/technical/document/datasheet/DM00071904.pdf; Height: 1.2mm; Mouser Part Number: 511-M24C02-RDW6TP; Mouser Price/Stock: https://www.mouser.co.uk/ProductDetail/STMicroelectronics/M24C02-RDW6TP?qs=%252B9pWl1iD4MUzNM47LafVHA%3D%3D; Arrow Part Number: M24C02-RDW6TP; Arrow Price/Stock: https://www.arrow.com/en/products/m24c02-rdw6tp/stmicroelectronics?region=nac
footprint SOIC127P780X195-8N
pins: 1 E0, 2 E1, 3 E2, 4 VSS, 5 SDA, 6 SCL, 7 ~{WC}, 8 VCC

## NCD9830DBR2G
designator U?
ADC 8-BIT 8-CHANNEL ADC; MPN: NCD9830DBR2G; ComponentLink1Description: Mouser; ComponentLink1URL: https://ar.mouser.com/ProductDetail/onsemi/NCD9830DBR2G?qs=xGcJQ%252BnsJwuRbKLXZSG0bw%3D%3D; ComponentLink2Description: Datasheet; ComponentLink2URL: https://ar.mouser.com/datasheet/2/308/1/NCD9830_D-2316464.pdf
footprint TSSOP-16
pins: 1 CH0, 2 CH1, 3 CH2, 4 CH3, 5 CH4, 6 CH5, 7 CH6, 8 CH7, 9 GND (power), 10 REFIN/OUT (power), 11 COM (power), 12 A0 (in), 13 A1 (in), 14 SCL (in), 15 SDA (io), 16 VDD (power)
text: ANALOG; DIGITAL

## PHA-202+
designator IC?
RF Power Amplifier 2W; Manufacturer_Name: Mini-Circuits; MPN: PHA-202+; Datasheet Link: https://ar.mouser.com/datasheet/2/1030/PHA_202_2b-1700733.pdf; Mouser Part Number: 139-PHA-202; ComponentLink1Description: Mouser; ComponentLink1URL: https://ar.mouser.com/ProductDetail/Mini-Circuits/PHA-202%2B?qs=xZ%2FP%252Ba9zWqZQB6K3pdIF%252Bw%3D%3D; ComponentLink2Description: Datasheet; ComponentLink2URL: https://ar.mouser.com/datasheet/2/1030/PHA_202_2b-1700733.pdf
footprint DL1636_MNC (PHA-202+)
pins: 1 NC, 2 RF_IN, 3 NC, 4 NC, 5 NC, 6 NC, 7 RF_OUT, 8 NC, 9 GND

## PMA2-33LN+
designator IC?
LNA; Manufacturer_Name: Mini-Circuits; Datasheet Link: https://www.minicircuits.com/pdfs/PMA2-33LN+.pdf; Height: 1.05mm; Manufacturer_Part_Number: PMA2-33LN+; Mouser Part Number: 139-PMA2-33LN; Mouser Price/Stock: https://www.mouser.co.uk/ProductDetail/Mini-Circuits/PMA2-33LN%2b?qs=xZ%2FP%252Ba9zWqbdbQN35IqusA%3D%3D; ComponentLink1Description: Datasheet; ComponentLink1URL: https://www.minicircuits.com/pdfs/PMA2-33LN+.pdf; ComponentLink2Description: Mouser; ComponentLink2URL: https://www.mouser.com/ProductDetail/Mini-Circuits/PMA2-33LN+?qs=xZ%2FP%252Ba9zWqbdbQN35IqusA%3D%3D
footprint SON50P200X200X105-9N-D
pins: 1 BIAS, 2 RF-IN, 3 NC, 4 NC, 5 NC, 6 NC, 7 RF-OUT, 8 NC, 9 GND

## RBDC-20-63+
designator IC?
Coupler; Manufacturer_Name: Mini-Circuits; Datasheet Link: https://www.minicircuits.com/pdfs/RBDC-20-63+.pdf; Height: 4.06mm; Manufacturer_Part_Number: RBDC-20-63+; Mouser Part Number: 139-RBDC-20-63+; Mouser Price/Stock: https://www.mouser.co.uk/ProductDetail/Mini-Circuits/RBDC-20-63%2b?qs=Rp5uXu7WBW840narw6ag4w%3D%3D; ComponentLink1Description: Datasheet; ComponentLink1URL: https://www.minicircuits.com/pdfs/RBDC-20-63+.pdf; ComponentLink2Description: Mouser; ComponentLink2URL: https://www.mouser.com/ProductDetail/Mini-Circuits/RBDC-20-63%2b?qs=Rp5uXu7WBW840narw6ag4w%3D%3D
footprint RBDC2063
pins: 1, 2 GND, 3, 4, 5 GND, 6 GND

## RF2-03E-T-00-50-G
designator J?
SMA, Right-Angle, Standard Polarity; Manufacturer_Name: Adam Tech; Manufacturer_Part_Number: RF2-03E-T-00-50-G; Datasheet Link: https://www.mouser.de/datasheet/2/4/rf2_03e_t_00_50_g_data_sheet-3396694.pdf; Height: 10.154mm; Mouser Part Number: 737-RF203ET0050G; Mouser Price/Stock: https://www.mouser.co.uk/ProductDetail/Adam-Tech/RF2-03E-T-00-50-G?qs=HoCaDK9Nz5cELVKb30Sc4w%3D%3D; Arrow Part Number: RF2-03E-T-00-50-G; Arrow Price/Stock: https://www.arrow.com/en/products/rf2-03e-t-00-50-g/adam-tech?region=nac; ComponentLink1Description: Mouser; ComponentLink1URL: https://ar.mouser.com/ProductDetail/Adam-Tech/RF2-03E-T-00-50-G?qs=HoCaDK9Nz5cELVKb30Sc4w%3D%3D; ComponentLink2Description: Datasheet; ComponentLink2URL: https://ar.mouser.com/datasheet/2/4/rf2_03e_t_00_50_g_data_sheet-3396694.pdf
footprint RF203ET0050G
pins: 1, 2, 3, 4, 5
text: SMA

## SN74AXC4T245QPWRQ1
designator IC?
4-Pin Level shifter, 3.3V to 1.8V; Manufacturer_Name: Texas Instruments; Manufacturer_Part_Number: SN74AXC4T245QPWRQ1; Datasheet Link: https://www.ti.com/lit/ds/symlink/sn74axch4t245.pdf; Height: 1.2mm; Mouser Part Number: 595-74AXC4T245QPWRQ1; Mouser Price/Stock: https://www.mouser.co.uk/ProductDetail/Texas-Instruments/SN74AXC4T245QPWRQ1?qs=XeJtXLiO41Q9w1g9rz1hpQ%3D%3D; Arrow Part Number: SN74AXC4T245QPWRQ1; Arrow Price/Stock: https://www.arrow.com/en/products/sn74axc4t245qpwrq1/texas-instruments?region=nac; ComponentLink1Description: Datasheet; ComponentLink1URL: https://www.ti.com/lit/ds/symlink/sn74axc4t245-q1.pdf?ts=1727622777213&ref_url=https%253A%252F%252Fwww.mouser.com%252F; ComponentLink2Description: Mouser; ComponentLink2URL: https://www.mouser.com/ProductDetail/Texas-Instruments/SN74AXC4T245QPWRQ1?qs=XeJtXLiO41Q9w1g9rz1hpQ%3D%3D
footprint SOP65P640X120-16N
pins: 1 VCCA, 2 1DIR, 3 2DIR, 4 1A1, 5 1A2, 6 2A1, 7 2A2, 8 GND, 9 GND, 10 2B2, 11 2B1, 12 1B2, 13 1B1, 14 2~{OE}, 15 1~{OE}, 16 VCCB

## TCM1-63AX+
designator T?
Transformer RF 50R 10-6000 MHz; Manufacturer_Name: Mini-Circuits; Manufacturer_Part_Number: TCM1-63AX+; Datasheet Link: www.minicircuits.com/pdfs/TCM1-63AX+.pdf; Mouser Part Number: 139-TCM1-63AX; Mouser Price/Stock: https://www.mouser.co.uk/ProductDetail/Mini-Circuits/TCM1-63AX%2b?qs=xZ%2FP%252Ba9zWqaLvjkaLlAVvw%3D%3D; ComponentLink1Description: Mouser; ComponentLink1URL: https://ar.mouser.com/ProductDetail/Mini-Circuits/TCM1-63AX%2b?qs=xZ%2FP%252Ba9zWqaLvjkaLlAVvw%3D%3D; ComponentLink2Description: Datasheet; ComponentLink2URL: https://ar.mouser.com/datasheet/2/1030/TCM1_63AX_2b-1701483.pdf
footprint DB1627 (Transformer RF 50R 10-6000 MHz)
pins: 1 NC, 2 PRIMARY/GND, 3 PRIMARY_DOT, 4 SECONDARY, 5 NC, 6 SECONDARY_DOT

## TG2520SMN_40.0000M-MCGNNM0
designator Y?
TCXO 40Mhz 10ppm; Manufacturer_Name: Epson Timing; MPN: TG2520SMN 40.0000M-MCGNNM0; Datasheet Link: https://support.epson.biz/td/api/doc_check.php?dl=brief_TG2520SMN&lang=en; Height: 0.8mm; Mouser Part Number: 732-2520SMN40MCGNNM0; Mouser Price/Stock: https://www.mouser.co.uk/ProductDetail/Epson-Timing/TG2520SMN-40.0000M-MCGNNM0?qs=4qgZ1GHix0UOYHwoOXt71w%3D%3D; Arrow Part Number: TG2520SMN 40.0000M-MCGNNM0; Arrow Price/Stock: https://www.arrow.com/en/products/tg2520smn-40.0000m-mcgnnm0/epson-electronics-america?region=nac; ComponentLink1Description: Mouser; ComponentLink1URL: https://ar.mouser.com/ProductDetail/Epson-Timing/TG2520SMN-40.0000M-MCGNNM0?qs=4qgZ1GHix0UOYHwoOXt71w%3D%3D; ComponentLink2Description: Datasheet; ComponentLink2URL: https://ar.mouser.com/datasheet/2/137/TG2520SMN_en-2584158.pdf
footprint TG2520SMN400000MMCGNNM0
pins: 1 N.C., 2 GND, 3 OUT, 4 VCC

## TL081HIDBVR
designator IC?
OPAMP; Manufacturer_Name: Texas Instruments; Manufacturer_Part_Number: TL081HIDBVR; Datasheet Link: https://www.ti.com/lit/gpn/tl081h; Height: 1.45mm; Mouser Part Number: 595-TL081HIDBVR; Mouser Price/Stock: https://www.mouser.co.uk/ProductDetail/Texas-Instruments/TL081HIDBVR?qs=pBJMDPsKWf3fiMPgyPE5dg%3D%3D; Arrow Part Number: TL081HIDBVR; Arrow Price/Stock: https://www.arrow.com/en/products/tl081hidbvr/texas-instruments?utm_currency=USD&region=nac; ComponentLink1Description: Datasheet; ComponentLink1URL: https://www.ti.com/lit/ds/symlink/tl081h.pdf?ts=1727470631967&ref_url=https%253A%252F%252Fwww.ti.com%252Fproduct%252FTL081H; ComponentLink2Description: Mouser; ComponentLink2URL: https://www.mouser.com/ProductDetail/Texas-Instruments/TL081HIDBVR?qs=pBJMDPsKWf3fiMPgyPE5dg%3D%3D
footprint SOT95P280X145-5N
pins: 1 OUT, 2 V-, 3 IN+, 4 IN-, 5 V+

## TPS22965TDSGTQ1
designator U?
Power Switch ICs - Power Distribution Ultra-Low Resistance Load Switch; Manufacturer_Name: Texas Instruments; Datasheet Link: http://www.ti.com/lit/gpn/TPS22965-Q1; Height: 0.8mm; Manufacturer_Part_Number: TPS22965TDSGTQ1; Mouser Part Number: 595-TPS22965TDSGTQ1; Mouser Price/Stock: https://www.mouser.co.uk/ProductDetail/Texas-Instruments/TPS22965TDSGTQ1?qs=hNud%2FORuBR1qNPcBoF6W9g%3D%3D; Arrow Part Number: TPS22965TDSGTQ1; Arrow Price/Stock: https://www.arrow.com/en/products/tps22965tdsgtq1/texas-instruments?region=nac; ComponentLink1Description: Mouser; ComponentLink1URL: https://ar.mouser.com/ProductDetail/Texas-Instruments/TPS22965TDSGTQ1?qs=hNud%2FORuBR1qNPcBoF6W9g%3D%3D; ComponentLink2Description: Datasheet; ComponentLink2URL: https://www.ti.com/lit/ds/symlink/tps22965-q1.pdf?ts=1681154826688&ref_url=https%253A%252F%252Fwww.google.com%252F; Supplier 1: Mouser
footprint WSON8
pins: 1 VIN_1, 2 VIN_2, 3 ON, 4 VBIAS, 5 GND, 6 CT, 7 VOUT_1, 8 VOUT_2, 9 Thermal

## TPS628501QDRLRQ1
designator U?
Switching Voltage Regulators 2.7-V to 6-V, 1-A automotive step-down converter in SOT583 package 8-SOT-5X3 -40 to 125; Manufacturer_Name: Texas Instruments; Datasheet Link: https://www.ti.com/lit/ds/symlink/tps628501-q1.pdf?ts=1623309662739&ref_url=https%253A%252F%252Fwww.google.com%252F; Height: 0.6mm; Manufacturer_Part_Number: TPS628501QDRLRQ1; Mouser Part Number: 595-TPS628501QDRLRQ1; Mouser Price/Stock: https://www.mouser.co.uk/ProductDetail/Texas-Instruments/TPS628501QDRLRQ1?qs=eP2BKZSCXI65zsVREY2nmA%3D%3D; Arrow Part Number: TPS628501QDRLRQ1; Arrow Price/Stock: https://www.arrow.com/en/products/tps628501qdrlrq1/texas-instruments?region=nac; Supplier 1: Mouser; ComponentLink1Description: Mouser; ComponentLink1URL: https://ar.mouser.com/ProductDetail/Texas-Instruments/TPS628501QDRLRQ1?qs=eP2BKZSCXI65zsVREY2nmA%3D%3D; ComponentLink2Description: Datasheet; ComponentLink2URL: https://www.ti.com/lit/ds/symlink/tps628501-q1.pdf?HQS=dis-mous-null-mousermode-dsf-pf-null-wwe&ts=1681737543141&ref_url=https%253A%252F%252Fwww.mouser.de%252F
footprint SOTFL50P160X60-8N
pins: 1 VIN, 2 EN, 3 MODE/SYNC, 4 COMP/FSET, 5 FB, 6 PG, 7 SW, 8 GND

## TSX-3225_40.0000MF10Y-W6
designator Y?
XTAL 40 MHZ 10ppm; Manufacturer_Name: Epson Timing; MPN: TSX-3225 40.0000MF10Y-W6; Datasheet Link: https://ar.mouser.com/datasheet/2/137/FA_238_en-932914.pdf; Height: 0.6mm; Mouser Part Number: 732-2520SMN40MCGNNM0; Mouser Price/Stock: https://www.mouser.co.uk/ProductDetail/Epson-Timing/TG2520SMN-40.0000M-MCGNNM0?qs=4qgZ1GHix0UOYHwoOXt71w%3D%3D; Arrow Part Number: TG2520SMN 40.0000M-MCGNNM0; Arrow Price/Stock: https://www.arrow.com/en/products/tg2520smn-40.0000m-mcgnnm0/epson-electronics-america?region=nac; ComponentLink1Description: Mouser; ComponentLink1URL: https://ar.mouser.com/ProductDetail/Epson-Timing/TSX-3225-40.0000MF10Y-W6?qs=f9yNj16SXrLedqTH4vBYXw%3D%3D; ComponentLink2Description: Datasheet; ComponentLink2URL: https://ar.mouser.com/datasheet/2/137/FA_238_en-932914.pdf
footprint TSX3225400000MF10YW6
pins: 1 OSC_L, 2 GND, 3 OSC_H, 4 GND

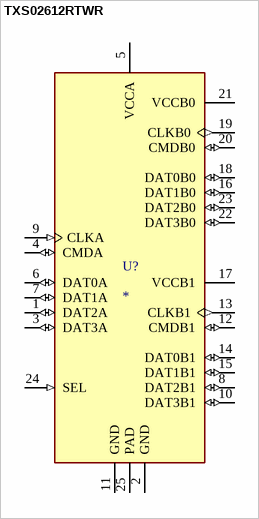
[diagram p3: symbol TXS02612RTWR]

## TXS02612RTWR
designator U?
SDIO Port Expander With Voltage-Level Translation 24-WQFN -40 to 85; MP: TXS02612RTWR; MF: Texas Instruments; SnapEDA_Link: https://www.snapeda.com/parts/TXS02612RTWR/Texas%20Instruments/view-part/422836/?ref=snap; Availability: Good; Price: None; Value: *; Purchase-URL: https://pricing.snapeda.com/search/part/TXS02612RTWR/?ref=eda; Package: WQFN-24 Texas Instruments; ComponentLink1Description: Datasheet; ComponentLink1URL: https://www.ti.com/lit/ds/symlink/txs02612.pdf?ts=1727248182905&ref_url=https%253A%252F%252Fwww.google.com%252F; ComponentLink2Description: Mouser; ComponentLink2URL: https://www.mouser.com/ProductDetail/Texas-Instruments/TXS02612RTWR?qs=dqESbKqT1jaNFKC1R4M7hw%3D%3D&srsltid=AfmBOoqlCH-wNtG_UGH-1cLTzQp-mDlZEKET4dFeeTO4jRGt1LO1uKj9
footprint QFN50P400X400X80-25N
pins: 1 DAT2A (io), 2 GND (power), 3 DAT3A (io), 4 CMDA (io), 5 VCCA (power), 6 DAT0A (io), 7 DAT1A (io), 8 DAT2B1 (io), 9 CLKA (in), 10 DAT3B1 (io), 11 GND (power), 12 CMDB1 (io), 13 CLKB1 (out), 14 DAT0B1 (io), 15 DAT1B1 (io), 16 DAT1B0 (io), 17 VCCB1 (power), 18 DAT0B0 (io), 19 CLKB0 (out), 20 CMDB0 (io), 21 VCCB0 (power), 22 DAT3B0 (io), 23 DAT2B0 (io), 24 SEL (in), 25 PAD